# Altium footprint library SN74HC10DR.PcbLib: 4 footprints
Each footprint in its own frame and in the unit in brackets; x right, y up, seen from the top. Pads: shape width x height; smd on the part's side, far side on the other; paste and mask are expansions set on the pad; w line width, h text height; cw(c..) or ccw(c..) is an arc to the next point about the centre after c.
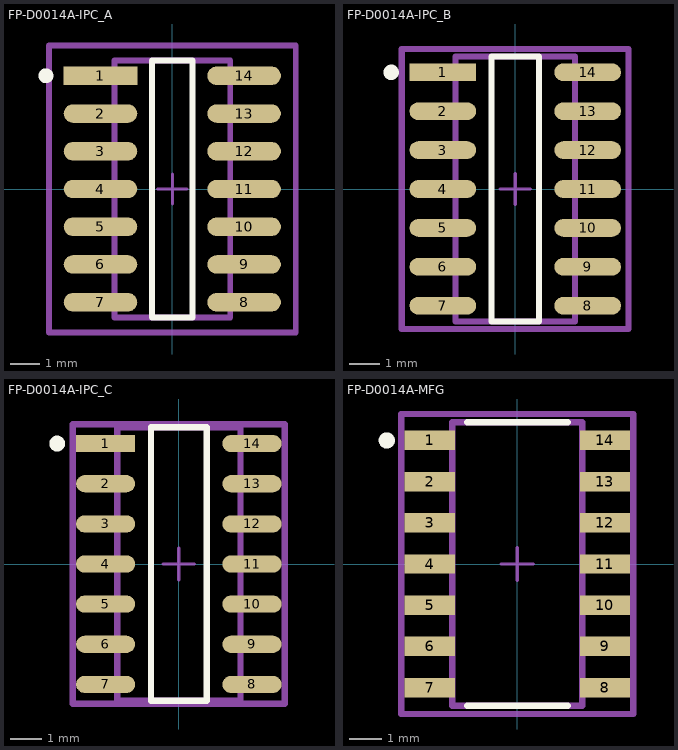
[diagram p0: the footprints below, top view; thin cyan lines are the x and y axes]

## FP-D0014A-IPC_A [mil]
pads (14):
  rect 97.4x24.49 smd paste+0 mask+0: 1(-95.12,150)
  rrect100% 97.4x24.49 smd paste+0 mask+0: 2(-95.12,100) 3(-95.12,50) 4(-95.12,0) 5(-95.12,-50) 6(-95.12,-100) 7(-95.12,-150) 8(95.12,-150) 9(95.12,-100) 10(95.12,-50) 11(95.12,0) 12(95.12,50) 13(95.12,100) 14(95.12,150)
Top Overlay:
  circle w9.84: c-167.32,150 r4.92
  lines w7.87: -26.73,-170.28 26.73,-170.28 26.73,170.28 -26.73,170.28 -26.73,-170.28
Top Assembly:
  lines w7.87: -163.51,-189.96 163.51,-189.96 163.51,189.96 -163.51,189.96 -163.51,-189.96
  text ".Designator" at 0,7.43 h39.37
Top 3D Body:
  lines w7.87: -76.77,-170.28 76.77,-170.28 76.77,170.28 -76.77,170.28 -76.77,-170.28
Top Courtyard:
  lines w7.87: -163.51,-189.96 163.51,-189.96 163.51,189.96 -163.51,189.96 -163.51,-189.96
Top Component Center:
  lines w3.94: -19.68,0 19.68,0 ; 0,-19.68 0,19.68
3D body "IC_Texas_Instruments_OPA4191IDR_eec.STEP": height 10, standoff 0, extent -163.51,-189.96 163.51,189.96

## FP-D0014A-IPC_B [mil]
pads (14):
  rect 85.59x22.92 smd paste+0 mask+0: 1(-93.15,150)
  rrect100% 85.59x22.92 smd paste+0 mask+0: 2(-93.15,100) 3(-93.15,50) 4(-93.15,0) 5(-93.15,-50) 6(-93.15,-100) 7(-93.15,-150) 8(93.15,-150) 9(93.15,-100) 10(93.15,-50) 11(93.15,0) 12(93.15,50) 13(93.15,100) 14(93.15,150)
Top Overlay:
  circle w9.84: c-159.45,150 r4.92
  lines w7.87: -30.67,-170.28 30.67,-170.28 30.67,170.28 -30.67,170.28 -30.67,-170.28
Top Assembly:
  lines w7.87: -145.79,-180.12 145.79,-180.12 145.79,180.12 -145.79,180.12 -145.79,-180.12
  text ".Designator" at 0,7.43 h39.37
Top 3D Body:
  lines w7.87: -76.77,-170.28 76.77,-170.28 76.77,170.28 -76.77,170.28 -76.77,-170.28
Top Courtyard:
  lines w7.87: -145.79,-180.12 145.79,-180.12 145.79,180.12 -145.79,180.12 -145.79,-180.12
Top Component Center:
  lines w3.94: -19.68,0 19.68,0 ; 0,-19.68 0,19.68
3D body "IC_Texas_Instruments_OPA4191IDR_eec.STEP": height 10, standoff 0, extent -145.79,-180.12 145.79,180.12

## FP-D0014A-IPC_C [mil]
pads (14):
  rect 73.78x21.34 smd paste+0 mask+0: 1(-91.18,150)
  rrect100% 73.78x21.34 smd paste+0 mask+0: 2(-91.18,100) 3(-91.18,50) 4(-91.18,0) 5(-91.18,-50) 6(-91.18,-100) 7(-91.18,-150) 8(91.18,-150) 9(91.18,-100) 10(91.18,-50) 11(91.18,0) 12(91.18,50) 13(91.18,100) 14(91.18,150)
Top Overlay:
  circle w9.84: c-151.57,150 r4.92
  lines w7.87: -34.61,-170.28 34.61,-170.28 34.61,170.28 -34.61,170.28 -34.61,-170.28
Top Assembly:
  lines w7.87: -132.01,-174.21 132.01,-174.21 132.01,174.21 -132.01,174.21 -132.01,-174.21
  text ".Designator" at 0,7.43 h39.37
Top 3D Body:
  lines w7.87: -76.77,-170.28 76.77,-170.28 76.77,170.28 -76.77,170.28 -76.77,-170.28
Top Courtyard:
  lines w7.87: -132.01,-174.21 132.01,-174.21 132.01,174.21 -132.01,174.21 -132.01,-174.21
Top Component Center:
  lines w3.94: -19.68,0 19.68,0 ; 0,-19.68 0,19.68
3D body "IC_Texas_Instruments_OPA4191IDR_eec.STEP": height 10, standoff 0, extent -132.01,-174.21 132.01,174.21

## FP-D0014A-MFG [mm]
pads (14):
  rect 1.55x0.6 smd paste-1000 mask+0: 1(-2.7,3.81) 2(-2.7,2.54) 3(-2.7,1.27) 4(-2.7,0) 5(-2.7,-1.27) 6(-2.7,-2.54) 7(-2.7,-3.81) 8(2.7,-3.81) 9(2.7,-2.54) 10(2.7,-1.27) 11(2.7,0) 12(2.7,1.27) 13(2.7,2.54) 14(2.7,3.81)
Top Overlay:
  circle w0.25: c-4.025,3.81 r0.125
  lines w0.2: -1.55,-4.375 1.55,-4.375 ; -1.55,4.375 1.55,4.375
Top Paste:
  rectangle: 1.95,-4.085 3.45,-3.535
  rectangle: 1.95,-2.815 3.45,-2.265
  rectangle: 1.95,-1.545 3.45,-0.995
  rectangle: 1.95,-0.275 3.45,0.275
  rectangle: 1.95,0.995 3.45,1.545
  rectangle: 1.95,2.265 3.45,2.815
  rectangle: 1.95,3.535 3.45,4.085
  rectangle: -3.45,-4.085 -1.95,-3.535
  rectangle: -3.45,-2.815 -1.95,-2.265
  rectangle: -3.45,-1.545 -1.95,-0.995
  rectangle: -3.45,-0.275 -1.95,0.275
  rectangle: -3.45,0.995 -1.95,1.545
  rectangle: -3.45,2.265 -1.95,2.815
  rectangle: -3.45,3.535 -1.95,4.085
Top Assembly:
  lines w0.2: -3.575,-4.625 3.575,-4.625 3.575,4.625 -3.575,4.625 -3.575,-4.625
  text ".Designator" at 0,0.189 h1
Top 3D Body:
  lines w0.2: -2,-4.375 2,-4.375 2,4.375 -2,4.375 -2,-4.375
Top Courtyard:
  lines w0.2: -3.575,-4.625 3.575,-4.625 3.575,4.625 -3.575,4.625 -3.575,-4.625
Top Component Center:
  lines w0.1: -0.5,0 0.5,0 ; 0,-0.5 0,0.5
3D body "IC_Texas_Instruments_OPA4191IDR_eec.STEP": height 0.25, standoff 0, extent -3.575,-4.625 3.575,4.625